# Altium schematic symbol library CR2477.SchLib: 1 symbol
Pins are listed as number, name and electrical type; pins without a type are passive.

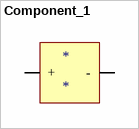
[diagram p0: symbol Component_1]

## Component_1
designator *
footprint CR2477 (CR2477 Clip)
pins: +, -